# Altium schematic symbol library MCP4726Ax.SchLib: 1 symbol
Pins are listed as number, name and electrical type; pins without a type are passive.

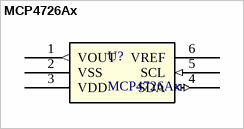
[diagram p0: symbol MCP4726Ax]

## MCP4726Ax
designator U?
Manufacturer_Part_Number: MCP4726A0T-E/CH; Vendor: Microchip; Built_By: EMA_UL_Team; C: Copyright (C) 2015 Accelerated Designs. All rights reserved; RefDes: RefDes; Type: DEV; Value: Value
footprint SOT-23-6_MC
pins: 1 VOUT (out), 2 VSS (power), 3 VDD (power), 4 SDA (io), 5 SCL (in), 6 VREF